# Altium schematic symbol library sch_Passive.SchLib: 30 symbols
Pins are listed as number, name and electrical type; pins without a type are passive.

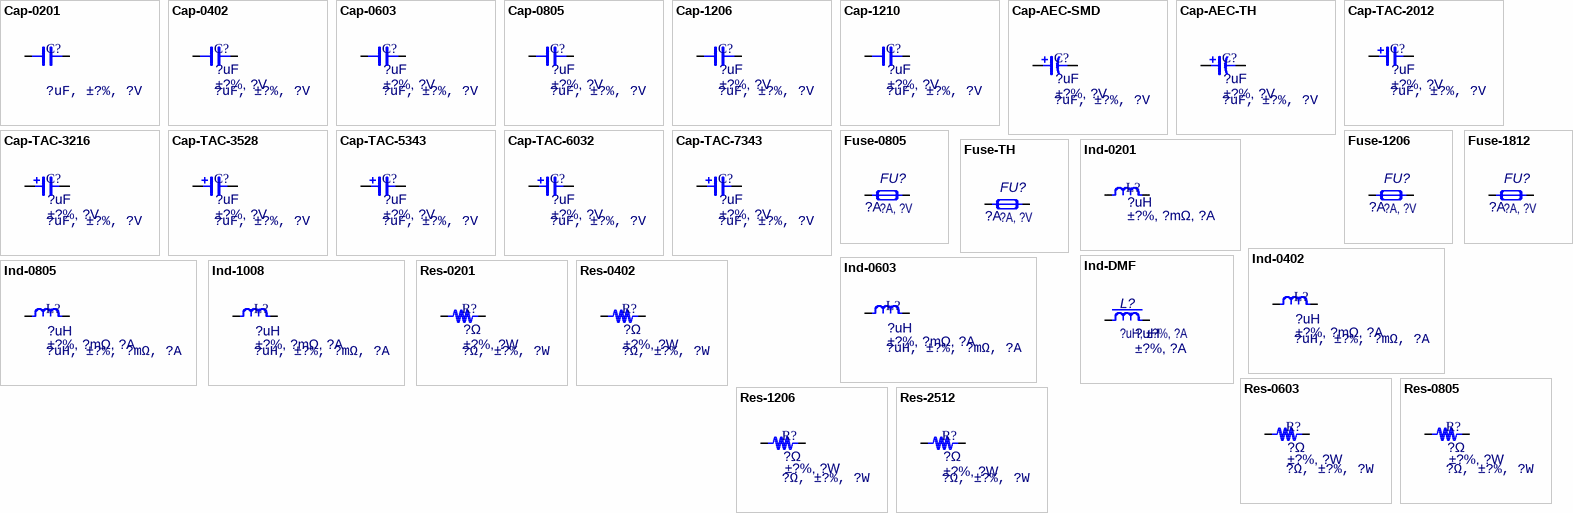
[diagram p0: symbols Cap-0201 to Res-2512]

## Cap-0201
designator C?, comment ?uF, ±?%, ?V
Capacitor; MFR: Mfr?; PartNumber: C0201; Note: ±?%, ?V; Package: 0201; Value: ?uF
footprint C0201
pins: 1, 2

## Cap-0402
designator C?, comment ?uF, ±?%, ?V  value ?uF  Note: ±?%, ?V
Capacitor; MFR: Mfr?; PartNumber: C0402; Package: 0402
footprint C0402
pins: 1, 2

## Cap-0603
designator C?, comment ?uF, ±?%, ?V  value ?uF  Note: ±?%, ?V
Capacitor; MFR: Mfr?; PartNumber: C0603; Package: 0603
footprint C0603
pins: 1, 2

## Cap-0805
designator C?, comment ?uF, ±?%, ?V  value ?uF  Note: ±?%, ?V
Capacitor; MFR: Mfr?; PartNumber: C0805; Package: 0805
footprint C0805
pins: 1, 2

## Cap-1206
designator C?, comment ?uF, ±?%, ?V  value ?uF  Note: ±?%, ?V
Capacitor; MFR: Mfr?; PartNumber: C1206; Package: 1206
footprint C1206
pins: 1, 2

## Cap-1210
designator C?, comment ?uF, ±?%, ?V  value ?uF  Note: ±?%, ?V
Capacitor; MFR: Mfr?; PartNumber: C1210; Package: 1210
footprint C1210
pins: 1, 2

## Cap-AEC-SMD
designator C?, comment ?uF, ±?%, ?V  value ?uF  Note: ±?%, ?V
Capacitor AEC; MFR: Mfr?; Package: AEC-SMD; PartNumber: AEC
footprint AEC-SMD_BD3.0-L3.3-W3.3-FD (贴片电解电容，直径3mm，高5.4mm)
footprint AEC-SMD_BD4.0-L4.3-W4.3-FD (贴片电解电容，直径4mm，高5.4mm)
footprint AEC-SMD_BD5.0-L5.3-W5.3-FD (贴片电解电容，直径5mm，高5.4mm)
footprint AEC-SMD_BD6.3-L6.6-W6.6-FD
footprint AEC-SMD_BD8.0-L8.3-W8.3-FD (贴片电解电容，直径8mm，高6.2mm)
footprint AEC-SMD_BD10.0-L10.3-W10.3-FD (贴片电解电容，直径10mm，高10.2mm)
footprint AEC-SMD_BD12.5-L13.0-W13.0-FD (贴片电解电容，直径12.5mm，高13.5mm)
footprint AEC-SMD_BD16.0-L17.0-W17.0-FD (贴片电解电容，直径16mm，高16.5mm)
pins: 1, 2

## Cap-AEC-TH
designator C?, comment ?uF, ±?%, ?V  value ?uF  Note: ±?%, ?V
Capacitor AEC; MFR: Mfr?; Package: AEC-SMD; PartNumber: AEC
footprint AEC-TH_BD4.0-P1.50-FD (脚距1.5mm直径4mm高度8mm)
pins: 1, 2

## Cap-TAC-2012
designator C?, comment ?uF, ±?%, ?V  value ?uF  Note: ±?%, ?V
Capacitor Tantalum; MFR: Mfr?; PartNumber: TAC0805; Package: 0805
footprint TAC-SMD_2012-FD_0805
pins: 1, 2

## Cap-TAC-3216
designator C?, comment ?uF, ±?%, ?V  value ?uF  Note: ±?%, ?V
Capacitor Tantalum; MFR: Mfr?; PartNumber: TAC1210; Package: 1210
footprint TAC-SMD_3216-FD_1206
pins: 1, 2

## Cap-TAC-3528
designator C?, comment ?uF, ±?%, ?V  value ?uF  Note: ±?%, ?V
Capacitor Tantalum; MFR: Mfr?; PartNumber: TAC1206; Package: 1206
footprint TAC-SMD_3528-FD_1210
pins: 1, 2

## Cap-TAC-5343
designator C?, comment ?uF, ±?%, ?V  value ?uF  Note: ±?%, ?V
Capacitor Tantalum; MFR: Mfr?; PartNumber: TAC2917; Package: 2917
footprint TAC-SMD_5343 (长7.3mm，宽4.3mm，厚2.8mm)
pins: 1, 2

## Cap-TAC-6032
designator C?, comment ?uF, ±?%, ?V  value ?uF  Note: ±?%, ?V
Capacitor Tantalum; MFR: Mfr?; PartNumber: TAC2917; Package: 2917
footprint TAC-SMD_6032 (长6.0mm，宽3.2mm，厚2.5mm)
pins: 1, 2

## Cap-TAC-7343
designator C?, comment ?uF, ±?%, ?V  value ?uF  Note: ±?%, ?V
Capacitor Tantalum; MFR: Mfr?; PartNumber: TAC2917; Package: 2917
footprint TAC-SMD_7343-FD_2917
pins: 1, 2

## Fuse-0805
designator FU?, comment ?A, ?V  value ?A
Self recovery fuse PPTC; MFR: Mfr?; PartNumber: FU0805; Package: 0805; Note: ?V
footprint F0805
pins: 1, 2

## Fuse-1206
designator FU?, comment ?A, ?V  value ?A
Self recovery fuse PPTC; MFR: Mfr?; PartNumber: FU1206; Package: 1206; Note: ?V
footprint F1206
pins: 1, 2

## Fuse-1812
designator FU?, comment ?A, ?V  value ?A
Self recovery fuse PPTC; MFR: Mfr?; PartNumber: FU1812; Package: 1812; Note: ?V
footprint F1812
pins: 1, 2

## Fuse-TH
designator FU?, comment ?A, ?V  value ?A
Self recovery fuse PPTC; MFR: Mfr?; PartNumber: FU; Package: DIPx2; Note: ?V
footprint FUSE-TH_L16.0-W4.0-P6.0-V (4*16mm(直径，脚距）)
pins: 1, 2

## Ind-0201
designator L?, comment value ?uH  Note: ±?%, ?mΩ, ?A  (hidden comment: ?uH, ±?%, ?mΩ, ?A)
Inductor; MFR: Mfr?; PartNumber: L0201; Package: 0201
pins: 1, 2

## Ind-0402
designator L?, comment ?uH, ±?%, ?mΩ, ?A  value ?uH  Note: ±?%, ?mΩ, ?A
Inductor; MFR: Mfr?; PartNumber: L0402; Package: 0402
footprint L0402
pins: 1, 2

## Ind-0603
designator L?, comment ?uH, ±?%, ?mΩ, ?A  value ?uH  Note: ±?%, ?mΩ, ?A
Inductor; MFR: Mfr?; PartNumber: L0603; Package: 0603
footprint L0603
pins: 1, 2

## Ind-0805
designator L?, comment ?uH, ±?%, ?mΩ, ?A  value ?uH  Note: ±?%, ?mΩ, ?A
Inductor; MFR: Mfr?; PartNumber: L0805; Package: 0805
footprint L0805
pins: 1, 2

## Ind-1008
designator L?, comment ?uH, ±?%, ?mΩ, ?A  value ?uH  Note: ±?%, ?mΩ, ?A
Inductor; MFR: Mfr?; PartNumber: L1008; Package: 1008
pins: 1, 2

## Ind-DMF
designator L?, comment ?uH, ±?%, ?A  value ?uH  Note: ±?%, ?A
Differential mode filtering inductance; MFR: Mfr?; PartNumber: L; Package: pkg?
footprint IND-SMD_L4.0-W4.0_NR4010 (4.0mm*4.0mm*1.0mm(长*宽*高）)
pins: 1, 2

## Res-0201
designator R?, comment ?Ω, ±?%, ?W  value ?Ω  Note: ±?%, ?W
Resistor; MFR: Mfr?; PartNumber: R0201; Package: 0201
pins: 1, 2

## Res-0402
designator R?, comment ?Ω, ±?%, ?W  value ?Ω  Note: ±?%, ?W
Resistor; MFR: Mfr?; PartNumber: R0402; Package: 0402
footprint R0402
pins: 1, 2

## Res-0603
designator R?, comment ?Ω, ±?%, ?W  value ?Ω  Note: ±?%, ?W
Resistor; MFR: Mfr?; PartNumber: R0603; Package: 0603
footprint R0603
pins: 1, 2

## Res-0805
designator R?, comment ?Ω, ±?%, ?W  value ?Ω  Note: ±?%, ?W
Resistor; MFR: Mfr?; PartNumber: R0805; Package: 0805
footprint R0805
pins: 1, 2

## Res-1206
designator R?, comment ?Ω, ±?%, ?W  value ?Ω  Note: ±?%, ?W
Resistor; MFR: Mfr?; PartNumber: R1206; Package: 1206
footprint R1206
pins: 1, 2

## Res-2512
designator R?, comment ?Ω, ±?%, ?W  value ?Ω  Note: ±?%, ?W
Resistor; MFR: Mfr?; PartNumber: R2512; Package: 2512
footprint R2512
pins: 1, 2